# Altium schematic symbol library AeroBoard.SchLib: 3 symbols
Pins are listed as number, name and electrical type; pins without a type are passive.

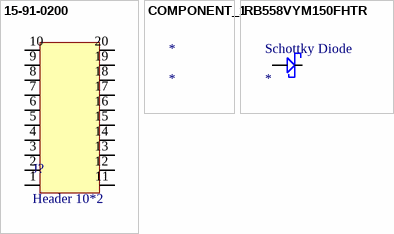
[diagram p0: symbols 15-91-0200 to RB558VYM150FHTR]

## 15-91-0200
designator J?, comment Header 10*2
HEADER, 20WAY; Manufacturer: Molex; Number of Contacts: 20; Max Voltage Rating (AC): 250V; Gender: Male; Max Voltage Rating (DC): 250.25kV; Current Rating: 3A; Pitch: 2.54mm; Glow Wire Compliant: Non-compliant; Supplier 1: Mouser; Manufacturer Part Number: 15-91-0200; Stock 1: 1720; Pricing 1: 1 = 2.46000, 10 = 2.20000, 50 = 2.20000, 100 = 1.91000, 1000 = 1.36000, 10000 = 1.21000 (USD); RoHS: Yes; Mount: Surface Mount; Contact Plating: Gold; Contact Material: Bronze; Color: Black; Housing Color: Natural; Housing Material: Thermoplastic; Material: Bronze; Min Operating Temperature: -40°C; Max Operating Temperature: 105°C; Number of Rows: 2; Termination: Solder; Packaging: Rail/Tube; Number of Positions: 20; Orientation: Straight; Voltage Rating: 250V; Max Current Rating: 3A; Contact Gender: Male; Voltage Rating (DC): 250V; Number of Circuits: 20; Length: 22.4mm; Height: 5.9mm; Row Spacing: 2.54mm; Depth: 4.9mm; Radiation Hardening: No; Flammability Rating: UL94 V-0; ELV: Compliant; Halogen Free: Low Halogen; Lead Free: Lead Free; ComponentLink1URL: https://datasheet.ciiva.com/1433/1572624-1433072.pdf?src-supplier=Element14; ComponentLink1Description: https://datasheet.ciiva.com/1433/1572624-1433072.pdf?src-supplier=Element14; ComponentLink2URL: https://datasheet.ciiva.com/5156/0015910200-pcb-headers-157836-5156284.pdf?src-supplier=Mouser; ComponentLink2Description: https://datasheet.ciiva.com/5156/0015910200-pcb-headers-157836-5156284.pdf?src-supplier=Mouser; ComponentLink3URL: https://datasheet.ciiva.com/19461/1962463-19461852.pdf?src-supplier=Jameco; ComponentLink3Description: https://datasheet.ciiva.com/19461/1962463-19461852.pdf?src-supplier=Jameco; ComponentLink4URL: https://datasheet.ciiva.com/30128/32460015910200-pcb-headers-30128031.pdf?src-supplier=Onlinecomponents.com; ComponentLink4Description: https://datasheet.ciiva.com/30128/32460015910200-pcb-headers-30128031.pdf?src-supplier=Onlinecomponents.com; ComponentLink5URL: https://datasheet.ciiva.com/10076/0015910200-pcb-headers-10076821.pdf?src-supplier=Avnet; ComponentLink5Description: https://datasheet.ciiva.com/10076/0015910200-pcb-headers-10076821.pdf?src-supplier=Avnet; ComponentLink6URL: https://datasheet.ciiva.com/16727/0015910200-pcb-headers-16727161.pdf?src-supplier=Avnet+Europe; ComponentLink6Description: https://datasheet.ciiva.com/16727/0015910200-pcb-headers-16727161.pdf?src-supplier=Avnet+Europe; Supplier Part Number 1: 538-15-91-0200
pins: 1, 2, 3, 4, 5, 6, 7, 8, 9, 10, 11, 12, 13, 14, 15, 16, 17, 18, 19, 20

## COMPONENT_1
designator *

## RB558VYM150FHTR
designator Schottky Diode
Diode Schottky 150V 0.5A Automotive 2-Pin TUMD-M T/R; Manufacturer: Rohm; Manufacturer Part Number: RB558VYM150FHTR; Forward Current: 500mA; Forward Voltage: 950mV; Max Forward Surge Current (Ifsm): 3A; Element Configuration: Single; Supplier 1: Mouser; Stock 1: 1374; Pricing 1: 1 = 0.45000, 10 = 0.31200, 50 = 0.31200, 100 = 0.14400, 1000 = 0.11000, 10000 = 0.09400 (USD); RoHS: No; Number of Pins: 2; Max Operating Temperature: 150°C; Max Repetitive Reverse Voltage (Vrrm): 150V; Packaging: Cut Tape; REACH SVHC: No SVHC; ComponentLink1URL: https://www.mouser.com/ds/2/348/rb558vym150fhtr-e-1266247.pdf?src-supplier=Mouser; ComponentLink1Description: https://www.mouser.com/ds/2/348/rb558vym150fhtr-e-1266247.pdf?src-supplier=Mouser; ComponentLink2URL: http://www.farnell.com/datasheets/2067169.pdf?src-supplier=Element14; ComponentLink2Description: http://www.farnell.com/datasheets/2067169.pdf?src-supplier=Element14; ComponentLink3URL: http://rohmfs.rohm.com/en/techdata_basic/diode/taping/Taping_TUMD2M_TR-e.pdf?src-supplier=Digi-Key; ComponentLink3Description: http://rohmfs.rohm.com/en/techdata_basic/diode/taping/Taping_TUMD2M_TR-e.pdf?src-supplier=Digi-Key; Supplier Part Number 1: 755-RB558VYM150FHTR
pins: 1, 2